# EAGLE library part 651005136521 (library Wurth_Elektronik_Electromechanic_Input-Output_Connectors_rev16a)
WR-COM Horizontal 5 Contacts Mini USB Typ B=>Code : Con_I-O_COM_MiniUSB_651005136521 <http://katalog.we-online.de/media/images/eican/Con_I-O_COM_MiniUSB_651005136521_pf2.jpg> Details see: http://katalog.we-online.de/en/em/651_005_136_521 Created 2014-07-09, Karrer Zheng 2014 (C) Würth Elektronik
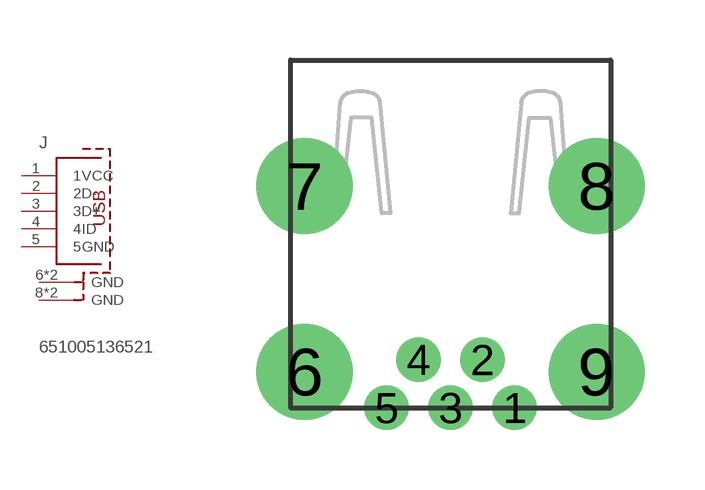
[diagram p71: symbol with the pads of 651005136521; footprint 651005136521]

Designator prefix J

## 651005136521  [651005136521]
1  1VCC  pas
2  2D-  pas
3  3D+  pas
4  4ID  pas
5  5GND  pas
6  GND
7  GND
8  GND
9  GND

## Footprint 651005136521 (pad centres in mm)
WR-COM Horizontal 5 Contacts Mini USB Typ B
drill 0.6: 1 1.6,-0.9; 2 0.8,0.3; 3 0,-0.9; 4 -0.8,0.3; 5 -1.6,-0.9
drill 1.6: 6 -3.65,0; 7 -3.65,4.65; 8 3.65,4.65; 9 3.65,0